# EAGLE library part THROUHOLE14 (library pinhead-half-pitch)
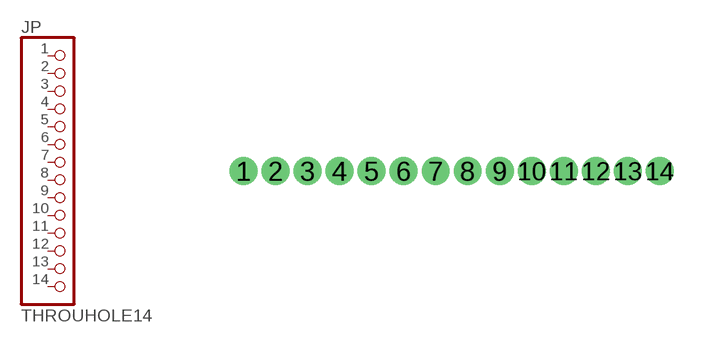
[diagram p5: symbol with the pads of THROUHOLE14; footprint THROUHOLE14]

Designator prefix JP

## THROUHOLE14  [THROUHOLE14]
1  1  pas
2  2  pas
3  3  pas
4  4  pas
5  5  pas
6  6  pas
7  7  pas
8  8  pas
9  9  pas
10  10  pas
11  11  pas
12  12  pas
13  13  pas
14  14  pas

## Footprint THROUHOLE14 (pad centres in mm)
drill 0.6: 1 -8.255,0; 2 -6.985,0; 3 -5.715,0; 4 -4.445,0; 5 -3.175,0; 6 -1.905,0; 7 -0.635,0; 8 0.635,0; 9 1.905,0; 10 3.175,0; 11 4.445,0; 12 5.715,0; 13 6.985,0; 14 8.255,0